# Altium schematic symbol library ATTINY2313.SchLib: 1 symbol
Pins are listed as number, name and electrical type; pins without a type are passive.

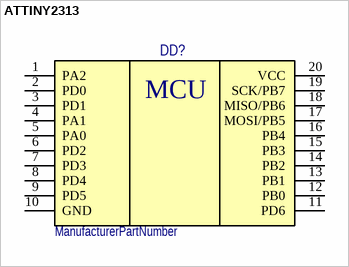
[diagram p0: symbol ATTINY2313]

## ATTINY2313
designator DD?  (value not drawn)
ManufacturerPartNumber: ManufacturerPartNumber
pins: 1 PA2, 2 PD0, 3 PD1, 4 PA1, 5 PA0, 6 PD2, 7 PD3, 8 PD4, 9 PD5, 10 GND, 11 PD6, 12 PB0, 13 PB1, 14 PB2, 15 PB3, 16 PB4, 17 MOSI/PB5, 18 MISO/PB6, 19 SCK/PB7, 20 VCC
text: MCU